# EAGLE library part PCA9515B (library brett)
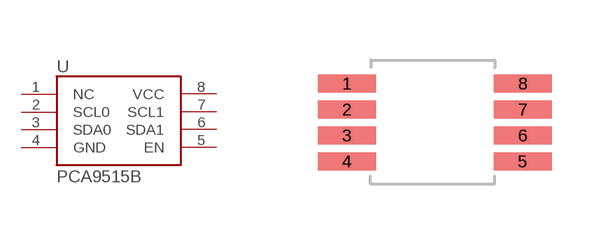
[diagram p1: symbol with the pads of 8-TSSOP; footprint 8-TSSOP]

Designator prefix -

## PCA9515B  [8-TSSOP]
1  NC
2  SCL0
3  SDA0
4  GND
5  EN
6  SDA1
7  SCL1
8  VCC

## Footprint 8-TSSOP (pad centres in mm)
smd 1.45 x 0.45: 1 -1.27,2.54; 2 -1.27,1.89; 3 -1.27,1.24; 4 -1.27,0.59; 5 3.13,0.59; 6 3.13,1.24; 7 3.13,1.89; 8 3.13,2.54